# Altium schematic symbol library MP6605DGR-P.SchLib: 1 symbol
Pins are listed as number, name and electrical type; pins without a type are passive.

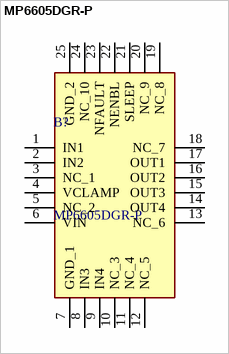
[diagram p0: symbol MP6605DGR-P]

## MP6605DGR-P
designator B?
Gate Drivers 4-Channel Low-Side MOSFET Driver IC with Parallel Interface; Manufacturer_Name: Monolithic Power Systems (MPS); Geometry.Height: 1mm; Manufacturer_Part_Number: MP6605DGR-P; Mouser Part Number: *; Mouser Price/Stock: *; Arrow Part Number: *; Arrow Price/Stock: *; Datasheet Link: https://www.monolithicpower.com/en/documentview/productdocument/index/version/2/document_type/Datasheet/lang/en/sku/MP6605DGR/document_id/10715/
footprint QFN50P400X400X100-25N-D
pins: 1 IN1, 2 IN2, 3 NC_1, 4 VCLAMP, 5 NC_2, 6 VIN, 7 GND_1, 8 IN3, 9 IN4, 10 NC_3, 11 NC_4, 12 NC_5, 13 NC_6, 14 OUT4, 15 OUT3, 16 OUT2, 17 OUT1, 18 NC_7, 19 NC_8, 20 NC_9, 21 SLEEP, 22 NENBL, 23 NFAULT, 24 NC_10, 25 GND_2